# Altium schematic symbol library AltiumDesigner.SchLib: 2 symbols
Pins are listed as number, name and electrical type; pins without a type are passive.

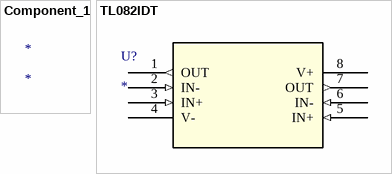
[diagram p0: symbols Component_1 to TL082IDT]

## Component_1
designator *

## TL082IDT
designator U?
Imported; MANUFACTURER_PART_NUMBER: TL082ID; VENDOR: ST Microelectronics; Amplifier_Type: J-FET; Number_of_Circuits: 2; Slew_Rate: 13 V/Âµs; Gain_Bandwidth_Product: 3MHz; Current_-_Input_Bias: 30pA; Voltage_-_Input_Offset: 3000ÂµV; Current_-_Supply: 1.4mA; Voltage_-_Supply,_Single/Dual_(Â±): 7 V ~ 36 V, Â±3.5 V ~ 18 V; Operating_Temperature: -40Â°C ~ 85Â°C; Mounting_Type: Surface Mount; C: Copyright (C) 2015 Accelerated Designs. All rights reserved; DigiKeyPartNumber: 296-7209-5-ND; Quantity_Available: 3461; Copyright: Copyright (C) 2015 Accelerated Designs. All rights reserved; DataSheet: http://www.ti.com/lit/ds/symlink/tl081a.pdf; Output_Type: -; -3db_Bandwidth: -; Current_-_Output_/_Channel: -; Package_/_Case: 8-SOIC (0.154", 3.90mm Width); Supplier_Device_Package: 8-SOIC; Packaging: Tube; Value: Value; Type: Type; RefDes: RefDes
footprint SO-8
pins: 1 OUT (out), 2 IN- (in), 3 IN+ (in), 4 V- (power), 5 IN+ (in), 6 IN- (in), 7 OUT (out), 8 V+ (power)